# EAGLE library part MICRO_USB (library myLib)
http://www.farnell.com/datasheets/1469072.pdf?_ga=1.139799603.1400796248.1488872329
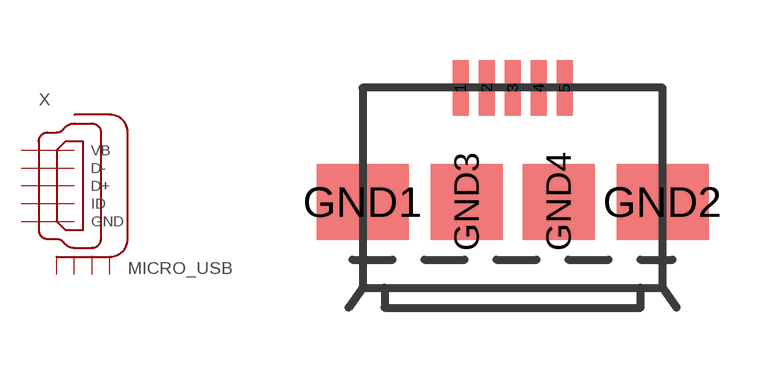
[diagram p1: symbol with the pads of MICRO-USB; footprint MICRO-USB]

Designator prefix X

## MICRO_USB  [MICRO-USB]
1  VB  pas
2  D-  pas
3  D+  pas
4  ID  pas
5  GND  pas
GND1  S1  pas
GND2  S2  pas
GND3  S3  pas
GND4  S4  pas

## Footprint MICRO-USB (pad centres in mm)
http://www.farnell.com/datasheets/1469072.pdf?_ga=1.210765845.1400796248.1488872329
smd 0.4 x 1.4: 1 -1.3,2.85; 2 -0.65,2.85; 3 0,2.85; 4 0.65,2.85; 5 1.3,2.85
smd 2.3 x 1.9: GND1 -3.75,0; GND2 3.75,0
smd 1.8 x 1.9: GND3 -1.15,0; GND4 1.15,0